# Altium schematic symbol library STLink-Dongle 10 pin.SchLib: 1 symbol
Pins are listed as number, name and electrical type; pins without a type are passive.

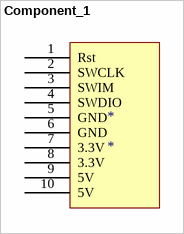
[diagram p0: symbol Component_1]

## Component_1
designator *
pins: 1 Rst, 2 SWCLK, 3 SWIM, 4 SWDIO, 5 GND, 6 GND, 7 3.3V, 8 3.3V, 9 5V, 10 5V